# Altium footprint library PCB - LEADED - TO - PG-TO252-5-11.PcbLib: 1 footprints
Each footprint in its own frame and in the unit in brackets; x right, y up, seen from the top. Pads: shape width x height; smd on the part's side, far side on the other; paste and mask are expansions set on the pad; w line width, h text height; cw(c..) or ccw(c..) is an arc to the next point about the centre after c.
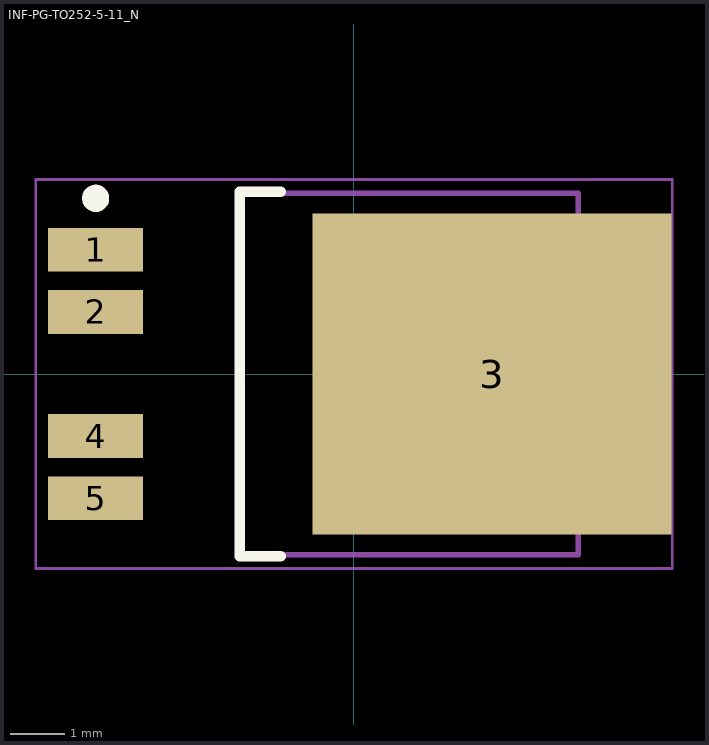
[diagram p0: the footprint, top view; thin cyan lines are the x and y axes]

## INF-PG-TO252-5-11_N [mm] "DPAK, 5-Leads, Body 6.5x6.12mm, Pitch 1.14mm, IPC Medium Density"
height 2.35
pads (5):
  rect 1.75x0.8 smd: 1(-4.75,2.28) 2(-4.75,1.14) 4(-4.75,-1.14) 5(-4.75,-2.28)
  rect 6.6x5.9 smd: 3(2.54,0)
Top Overlay:
  circle w0.25: c-4.75,3.23 r0.125
  lines w0.2: -1.35,-3.35 -2.1,-3.35 -2.1,3.35 -1.35,3.35
Top Assembly:
  lines w0.1: -2.1,-3.325 4.12,-3.325 4.12,3.325 -2.1,3.325 -2.1,-3.325
Top Courtyard:
  lines w0.05: -5.85,-3.575 5.85,-3.575 5.85,3.575 -5.85,3.575 -5.85,-3.575
Top Designator:
  text ".Designator" at 0.35,0.75 h1.2
Top Component Center:
  lines w0.1: -0.5,0 0.5,0 ; 0,-0.5 0,0.5
Top Value (Mech13):
  text ".Value" at 0.35,-1.301 h1.2
3D body "ITS428L2.stp": height 2.3, standoff 0, extent -4.8,-3.25 5.1,3.25